# Altium integrated library Altium_WE-XTAL (rev25b).IntLib: 324 symbols (part 4 of 6)
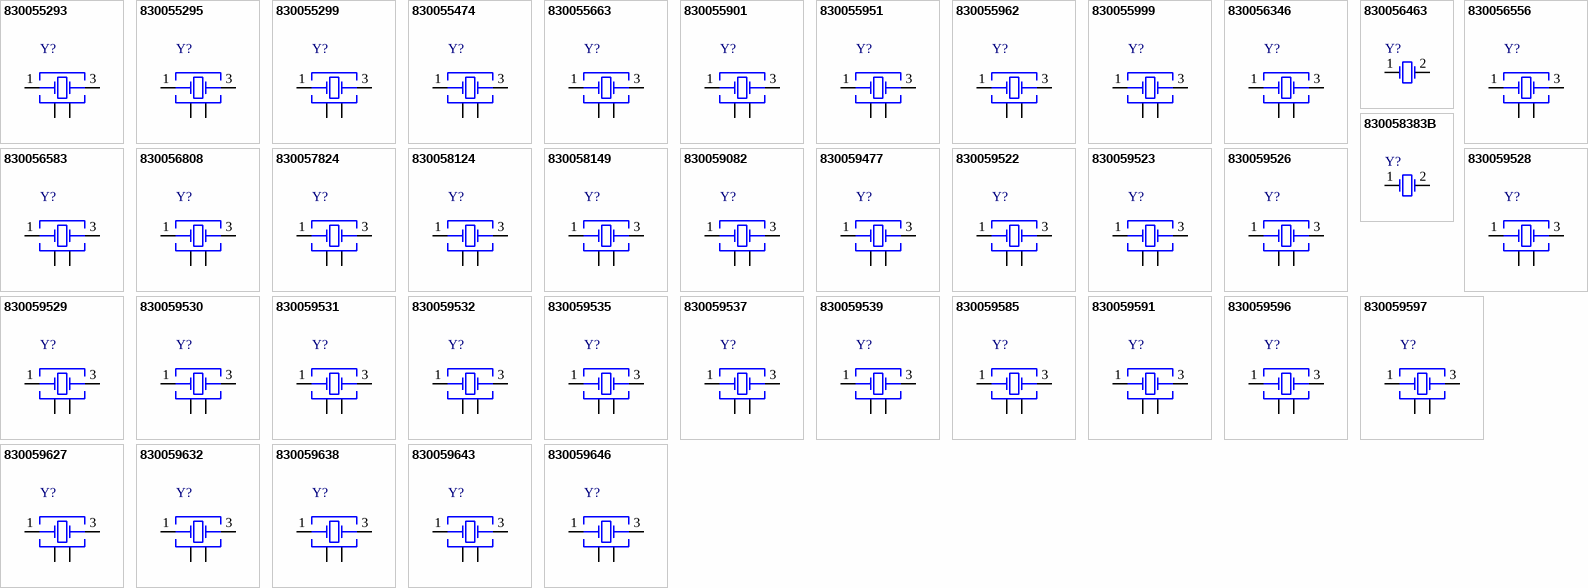
[diagram p11: symbols 830055293 to 830059646]

## 830059082
designator Y?, comment 8MHz  (value not drawn)
WE-XTAL Quartz Crystal, 12SMX, 8MHz, +/-20ppm; Manufacturer Part Number: 830059082; Manufacturer: Wurth Elektronik; Frequency Stability: 50ppm; Load Capacitance: 10pF; Category: Crystals; Match Code: WE-XTAL; ComponentLink1Description: Website Link; ComponentLink1URL: https://www.we-online.com/redexpert/article/830059082?ad; ComponentLink2Description: Datasheet Link; ComponentLink2URL: https://www.we-online.com/redexpert/spec/830059082?ad; Mount: Surface Mount; Min Operating Temperature: -20°C; Max Operating Temperature: 70°C; Packaging: Tape and Reel; Case/Size Code: 12SMX; Length: 7mm; Width: 5mm; Height: 1.4mm; Application: 0; Frequency: 8MHz; Frequency Tolerance: +/-20ppm
footprint WE-XTAL_12SMX
pins: 1 Crystal, 2 GND, 3 Crystal, 4 GND

## 830059477
designator Y?, comment 12.8MHz  (value not drawn)
WE-XTAL Quartz Crystal, CFPX-104, 12.8MHz, +/-10ppm; Manufacturer Part Number: 830059477; Manufacturer: Wurth Elektronik; Frequency Stability: 20ppm; Load Capacitance: 15pF; Category: Crystals; Match Code: WE-XTAL; ComponentLink1Description: Website Link; ComponentLink1URL: https://www.we-online.com/redexpert/article/830059477?ad; ComponentLink2Description: Datasheet Link; ComponentLink2URL: https://www.we-online.com/redexpert/spec/830059477?ad; Mount: Surface Mount; Min Operating Temperature: -40°C; Max Operating Temperature: 85°C; Packaging: Tape and Reel; Case/Size Code: CFPX-104; Length: 5mm; Width: 3.2mm; Height: 1mm; Application: Processor; Frequency: 12.8MHz; Frequency Tolerance: +/-10ppm
footprint WE-XTAL_CFPX-104
pins: 1 Crystal, 2 GND & Lid, 3 Crystal, 4 GND & Lid

## 830059522
designator Y?, comment 12MHz  (value not drawn)
WE-XTAL Quartz Crystal, CFPX-104, 12MHz, +/-20ppm; Manufacturer Part Number: 830059522; Manufacturer: Wurth Elektronik; Frequency Stability: 30ppm; Load Capacitance: 18pF; Category: Crystals; Match Code: WE-XTAL; ComponentLink1Description: Website Link; ComponentLink1URL: https://www.we-online.com/redexpert/article/830059522?ad; ComponentLink2Description: Datasheet Link; ComponentLink2URL: https://www.we-online.com/redexpert/spec/830059522?ad; Mount: Surface Mount; Min Operating Temperature: -40°C; Max Operating Temperature: 85°C; Packaging: Tape and Reel; Case/Size Code: CFPX-104; Length: 5mm; Width: 3.2mm; Height: 1mm; Application: Processor, USB, CAN; Frequency: 12MHz; Frequency Tolerance: +/-20ppm
footprint WE-XTAL_CFPX-104
pins: 1 Crystal, 2 GND & Lid, 3 Crystal, 4 GND & Lid

## 830059523
designator Y?, comment 12.288MHz  (value not drawn)
WE-XTAL Quartz Crystal, CFPX-104, 12.288MHz, +/-20ppm; Manufacturer Part Number: 830059523; Manufacturer: Wurth Elektronik; Frequency Stability: 30ppm; Load Capacitance: 18pF; Category: Crystals; Match Code: WE-XTAL; ComponentLink1Description: Website Link; ComponentLink1URL: https://www.we-online.com/redexpert/article/830059523?ad; ComponentLink2Description: Datasheet Link; ComponentLink2URL: https://www.we-online.com/redexpert/spec/830059523?ad; Mount: Surface Mount; Min Operating Temperature: -40°C; Max Operating Temperature: 85°C; Packaging: Tape and Reel; Case/Size Code: CFPX-104; Length: 5mm; Width: 3.2mm; Height: 1mm; Application: UART, Audio; Frequency: 12.288MHz; Frequency Tolerance: +/-20ppm
footprint WE-XTAL_CFPX-104
pins: 1 Crystal, 2 GND & Lid, 3 Crystal, 4 GND & Lid

## 830059526
designator Y?, comment 14.31818MHz  (value not drawn)
WE-XTAL Quartz Crystal, CFPX-104, 14.31818MHz, +/-20ppm; Manufacturer Part Number: 830059526; Manufacturer: Wurth Elektronik; Frequency Stability: 30ppm; Load Capacitance: 18pF; Category: Crystals; Match Code: WE-XTAL; ComponentLink1Description: Website Link; ComponentLink1URL: https://www.we-online.com/redexpert/article/830059526?ad; ComponentLink2Description: Datasheet Link; ComponentLink2URL: https://www.we-online.com/redexpert/spec/830059526?ad; Mount: Surface Mount; Min Operating Temperature: -40°C; Max Operating Temperature: 85°C; Packaging: Tape and Reel; Case/Size Code: CFPX-104; Length: 5mm; Width: 3.2mm; Height: 1mm; Application: Processor; Frequency: 14.31818MHz; Frequency Tolerance: +/-20ppm
footprint WE-XTAL_CFPX-104
pins: 1 Crystal, 2 GND & Lid, 3 Crystal, 4 GND & Lid

## 830059528
designator Y?, comment 16.384MHz  (value not drawn)
WE-XTAL Quartz Crystal, CFPX-104, 16.384MHz, +/-20ppm; Manufacturer Part Number: 830059528; Manufacturer: Wurth Elektronik; Frequency Stability: 30ppm; Load Capacitance: 18pF; Category: Crystals; Match Code: WE-XTAL; ComponentLink1Description: Website Link; ComponentLink1URL: https://www.we-online.com/redexpert/article/830059528?ad; ComponentLink2Description: Datasheet Link; ComponentLink2URL: https://www.we-online.com/redexpert/spec/830059528?ad; Mount: Surface Mount; Min Operating Temperature: -40°C; Max Operating Temperature: 85°C; Packaging: Tape and Reel; Case/Size Code: CFPX-104; Length: 5mm; Width: 3.2mm; Height: 1mm; Application: Audio, GPS; Frequency: 16.384MHz; Frequency Tolerance: +/-20ppm
footprint WE-XTAL_CFPX-104
pins: 1 Crystal, 2 GND & Lid, 3 Crystal, 4 GND & Lid

## 830059529
designator Y?, comment 18.432MHz  (value not drawn)
WE-XTAL Quartz Crystal, CFPX-104, 18.432MHz, +/-20ppm; Manufacturer Part Number: 830059529; Manufacturer: Wurth Elektronik; Frequency Stability: 30ppm; Load Capacitance: 18pF; Category: Crystals; Match Code: WE-XTAL; ComponentLink1Description: Website Link; ComponentLink1URL: https://www.we-online.com/redexpert/article/830059529?ad; ComponentLink2Description: Datasheet Link; ComponentLink2URL: https://www.we-online.com/redexpert/spec/830059529?ad; Mount: Surface Mount; Min Operating Temperature: -40°C; Max Operating Temperature: 85°C; Packaging: Tape and Reel; Case/Size Code: CFPX-104; Length: 5mm; Width: 3.2mm; Height: 1mm; Application: UART, Audio; Frequency: 18.432MHz; Frequency Tolerance: +/-20ppm
footprint WE-XTAL_CFPX-104
pins: 1 Crystal, 2 GND & Lid, 3 Crystal, 4 GND & Lid

## 830059530
designator Y?, comment 24MHz  (value not drawn)
WE-XTAL Quartz Crystal, CFPX-104, 24MHz, +/-20ppm; Manufacturer Part Number: 830059530; Manufacturer: Wurth Elektronik; Frequency Stability: 30ppm; Load Capacitance: 18pF; Category: Crystals; Match Code: WE-XTAL; ComponentLink1Description: Website Link; ComponentLink1URL: https://www.we-online.com/redexpert/article/830059530?ad; ComponentLink2Description: Datasheet Link; ComponentLink2URL: https://www.we-online.com/redexpert/spec/830059530?ad; Mount: Surface Mount; Min Operating Temperature: -40°C; Max Operating Temperature: 85°C; Packaging: Tape and Reel; Case/Size Code: CFPX-104; Length: 5mm; Width: 3.2mm; Height: 1mm; Application: Processor, USB, Bluetooth; Frequency: 24MHz; Frequency Tolerance: +/-20ppm
footprint WE-XTAL_CFPX-104
pins: 1 Crystal, 2 GND & Lid, 3 Crystal, 4 GND & Lid

## 830059531
designator Y?, comment 24.576MHz  (value not drawn)
WE-XTAL Quartz Crystal, CFPX-104, 24.576MHz, +/-20ppm; Manufacturer Part Number: 830059531; Manufacturer: Wurth Elektronik; Frequency Stability: 30ppm; Load Capacitance: 18pF; Category: Crystals; Match Code: WE-XTAL; ComponentLink1Description: Website Link; ComponentLink1URL: https://www.we-online.com/redexpert/article/830059531?ad; ComponentLink2Description: Datasheet Link; ComponentLink2URL: https://www.we-online.com/redexpert/spec/830059531?ad; Mount: Surface Mount; Min Operating Temperature: -40°C; Max Operating Temperature: 85°C; Packaging: Tape and Reel; Case/Size Code: CFPX-104; Length: 5mm; Width: 3.2mm; Height: 1mm; Application: UART, Audio; Frequency: 24.576MHz; Frequency Tolerance: +/-20ppm
footprint WE-XTAL_CFPX-104
pins: 1 Crystal, 2 GND & Lid, 3 Crystal, 4 GND & Lid

## 830059532
designator Y?, comment 25MHz  (value not drawn)
WE-XTAL Quartz Crystal, CFPX-104, 25MHz, +/-20ppm; Manufacturer Part Number: 830059532; Manufacturer: Wurth Elektronik; Frequency Stability: 30ppm; Load Capacitance: 18pF; Category: Crystals; Match Code: WE-XTAL; ComponentLink1Description: Website Link; ComponentLink1URL: https://www.we-online.com/redexpert/article/830059532?ad; ComponentLink2Description: Datasheet Link; ComponentLink2URL: https://www.we-online.com/redexpert/spec/830059532?ad; Mount: Surface Mount; Min Operating Temperature: -40°C; Max Operating Temperature: 85°C; Packaging: Tape and Reel; Case/Size Code: CFPX-104; Length: 5mm; Width: 3.2mm; Height: 1mm; Application: Processor, USB, 3G/4G/5G, Ethernet, Small Cell, PHY, PCI Express; Frequency: 25MHz; Frequency Tolerance: +/-20ppm
footprint WE-XTAL_CFPX-104
pins: 1 Crystal, 2 GND & Lid, 3 Crystal, 4 GND & Lid

## 830059535
designator Y?, comment 32MHz  (value not drawn)
WE-XTAL Quartz Crystal, CFPX-104, 32MHz, +/-20ppm; Manufacturer Part Number: 830059535; Manufacturer: Wurth Elektronik; Frequency Stability: 30ppm; Load Capacitance: 18pF; Category: Crystals; Match Code: WE-XTAL; ComponentLink1Description: Website Link; ComponentLink1URL: https://www.we-online.com/redexpert/article/830059535?ad; ComponentLink2Description: Datasheet Link; ComponentLink2URL: https://www.we-online.com/redexpert/spec/830059535?ad; Mount: Surface Mount; Min Operating Temperature: -40°C; Max Operating Temperature: 85°C; Packaging: Tape and Reel; Case/Size Code: CFPX-104; Length: 5mm; Width: 3.2mm; Height: 1mm; Application: Processor, Bluetooth; Frequency: 32MHz; Frequency Tolerance: +/-20ppm
footprint WE-XTAL_CFPX-104
pins: 1 Crystal, 2 GND & Lid, 3 Crystal, 4 GND & Lid

## 830059537
designator Y?, comment 40MHz  (value not drawn)
WE-XTAL Quartz Crystal, CFPX-104, 40MHz, +/-20ppm; Manufacturer Part Number: 830059537; Manufacturer: Wurth Elektronik; Frequency Stability: 30ppm; Load Capacitance: 18pF; Category: Crystals; Match Code: WE-XTAL; ComponentLink1Description: Website Link; ComponentLink1URL: https://www.we-online.com/redexpert/article/830059537?ad; ComponentLink2Description: Datasheet Link; ComponentLink2URL: https://www.we-online.com/redexpert/spec/830059537?ad; Mount: Surface Mount; Min Operating Temperature: -40°C; Max Operating Temperature: 85°C; Packaging: Tape and Reel; Case/Size Code: CFPX-104; Length: 5mm; Width: 3.2mm; Height: 1mm; Application: Processor, USB, 3G/4G/5G, CAN, Wi-Fi; Frequency: 40MHz; Frequency Tolerance: +/-20ppm
footprint WE-XTAL_CFPX-104
pins: 1 Crystal, 2 GND & Lid, 3 Crystal, 4 GND & Lid

## 830059539
designator Y?, comment 48MHz  (value not drawn)
WE-XTAL Quartz Crystal, CFPX-104, 48MHz, +/-20ppm; Manufacturer Part Number: 830059539; Manufacturer: Wurth Elektronik; Frequency Stability: 30ppm; Load Capacitance: 18pF; Category: Crystals; Match Code: WE-XTAL; ComponentLink1Description: Website Link; ComponentLink1URL: https://www.we-online.com/redexpert/article/830059539?ad; ComponentLink2Description: Datasheet Link; ComponentLink2URL: https://www.we-online.com/redexpert/spec/830059539?ad; Mount: Surface Mount; Min Operating Temperature: -40°C; Max Operating Temperature: 85°C; Packaging: Tape and Reel; Case/Size Code: CFPX-104; Length: 5mm; Width: 3.2mm; Height: 1mm; Application: Processor, USB, Wi-Fi; Frequency: 48MHz; Frequency Tolerance: +/-20ppm
footprint WE-XTAL_CFPX-104
pins: 1 Crystal, 2 GND & Lid, 3 Crystal, 4 GND & Lid

## 830059585
designator Y?, comment 20MHz  (value not drawn)
WE-XTAL Quartz Crystal, IQXC-42, 20MHz, +/-15ppm; Manufacturer Part Number: 830059585; Manufacturer: Wurth Elektronik; Frequency Stability: 20ppm; Load Capacitance: 10pF; Category: Crystals; Match Code: WE-XTAL; ComponentLink1Description: Website Link; ComponentLink1URL: https://www.we-online.com/redexpert/article/830059585?ad; ComponentLink2Description: Datasheet Link; ComponentLink2URL: https://www.we-online.com/redexpert/spec/830059585?ad; Mount: Surface Mount; Min Operating Temperature: -40°C; Max Operating Temperature: 85°C; Packaging: Tape and Reel; Case/Size Code: IQXC-42; Length: 2mm; Width: 1.6mm; Height: 0.5mm; Application: Processor, CAN, USB, Ethernet, Wi-Fi; Frequency: 20MHz; Frequency Tolerance: +/-15ppm
footprint WE-XTAL_IQXC-42
pins: 1 Crystal, 2 GND & Lid, 3 Crystal, 4 GND & Lid

## 830059591
designator Y?, comment 26MHz  (value not drawn)
WE-XTAL Quartz Crystal, IQXC-42, 26MHz, +/-15ppm; Manufacturer Part Number: 830059591; Manufacturer: Wurth Elektronik; Frequency Stability: 20ppm; Load Capacitance: 10pF; Category: Crystals; Match Code: WE-XTAL; ComponentLink1Description: Website Link; ComponentLink1URL: https://www.we-online.com/redexpert/article/830059591?ad; ComponentLink2Description: Datasheet Link; ComponentLink2URL: https://www.we-online.com/redexpert/spec/830059591?ad; Mount: Surface Mount; Min Operating Temperature: -40°C; Max Operating Temperature: 85°C; Packaging: Tape and Reel; Case/Size Code: IQXC-42; Length: 2mm; Width: 1.6mm; Height: 0.5mm; Application: CAN, Bluetooth, GPS, Small Cell; Frequency: 26MHz; Frequency Tolerance: +/-15ppm
footprint WE-XTAL_IQXC-42
pins: 1 Crystal, 2 GND & Lid, 3 Crystal, 4 GND & Lid

## 830059596
designator Y?, comment 30MHz  (value not drawn)
WE-XTAL Quartz Crystal, IQXC-42, 30MHz, +/-15ppm; Manufacturer Part Number: 830059596; Manufacturer: Wurth Elektronik; Frequency Stability: 20ppm; Load Capacitance: 10pF; Category: Crystals; Match Code: WE-XTAL; ComponentLink1Description: Website Link; ComponentLink1URL: https://www.we-online.com/redexpert/article/830059596?ad; ComponentLink2Description: Datasheet Link; ComponentLink2URL: https://www.we-online.com/redexpert/spec/830059596?ad; Mount: Surface Mount; Min Operating Temperature: -40°C; Max Operating Temperature: 85°C; Packaging: Tape and Reel; Case/Size Code: IQXC-42; Length: 2mm; Width: 1.6mm; Height: 0.5mm; Application: Processor, USB; Frequency: 30MHz; Frequency Tolerance: +/-15ppm
footprint WE-XTAL_IQXC-42
pins: 1 Crystal, 2 GND & Lid, 3 Crystal, 4 GND & Lid

## 830059597
designator Y?, comment 32MHz  (value not drawn)
WE-XTAL Quartz Crystal, IQXC-42, 32MHz, +/-15ppm; Manufacturer Part Number: 830059597; Manufacturer: Wurth Elektronik; Frequency Stability: 20ppm; Load Capacitance: 10pF; Category: Crystals; Match Code: WE-XTAL; ComponentLink1Description: Website Link; ComponentLink1URL: https://www.we-online.com/redexpert/article/830059597?ad; ComponentLink2Description: Datasheet Link; ComponentLink2URL: https://www.we-online.com/redexpert/spec/830059597?ad; Mount: Surface Mount; Min Operating Temperature: -40°C; Max Operating Temperature: 85°C; Packaging: Tape and Reel; Case/Size Code: IQXC-42; Length: 2mm; Width: 1.6mm; Height: 0.5mm; Application: Processor, Bluetooth; Frequency: 32MHz; Frequency Tolerance: +/-15ppm
footprint WE-XTAL_IQXC-42
pins: 1 Crystal, 2 GND & Lid, 3 Crystal, 4 GND & Lid

## 830059627
designator Y?, comment 38.4MHz  (value not drawn)
WE-XTAL Quartz Crystal, IQXC-42, 38.4MHz, +/-15ppm; Manufacturer Part Number: 830059627; Manufacturer: Wurth Elektronik; Frequency Stability: 30ppm; Load Capacitance: 10pF; Category: Crystals; Match Code: WE-XTAL; ComponentLink1Description: Website Link; ComponentLink1URL: https://www.we-online.com/redexpert/article/830059627?ad; ComponentLink2Description: Datasheet Link; ComponentLink2URL: https://www.we-online.com/redexpert/spec/830059627?ad; Mount: Surface Mount; Min Operating Temperature: -40°C; Max Operating Temperature: 85°C; Packaging: Tape and Reel; Case/Size Code: IQXC-42; Length: 2mm; Width: 1.6mm; Height: 0.5mm; Application: 3G/4G/5G, Audio, Small Cell, UART; Frequency: 38.4MHz; Frequency Tolerance: +/-15ppm
footprint WE-XTAL_IQXC-42
pins: 1 Crystal, 2 GND & Lid, 3 Crystal, 4 GND & Lid

## 830059632
designator Y?, comment 40MHz  (value not drawn)
WE-XTAL Quartz Crystal, IQXC-42, 40MHz, +/-15ppm; Manufacturer Part Number: 830059632; Manufacturer: Wurth Elektronik; Frequency Stability: 20ppm; Load Capacitance: 10pF; Category: Crystals; Match Code: WE-XTAL; ComponentLink1Description: Website Link; ComponentLink1URL: https://www.we-online.com/redexpert/article/830059632?ad; ComponentLink2Description: Datasheet Link; ComponentLink2URL: https://www.we-online.com/redexpert/spec/830059632?ad; Mount: Surface Mount; Min Operating Temperature: -40°C; Max Operating Temperature: 85°C; Packaging: Tape and Reel; Case/Size Code: IQXC-42; Length: 2mm; Width: 1.6mm; Height: 0.5mm; Application: Processor, USB, 3G/4G/5G, CAN, Wi-Fi; Frequency: 40MHz; Frequency Tolerance: +/-15ppm
footprint WE-XTAL_IQXC-42
pins: 1 Crystal, 2 GND & Lid, 3 Crystal, 4 GND & Lid

## 830059638
designator Y?, comment 20MHz  (value not drawn)
WE-XTAL Quartz Crystal, CFPX-180, 20MHz, +/-20ppm; Manufacturer Part Number: 830059638; Manufacturer: Wurth Elektronik; Frequency Stability: 30ppm; Load Capacitance: 18pF; Category: Crystals; Match Code: WE-XTAL; ComponentLink1Description: Website Link; ComponentLink1URL: https://www.we-online.com/redexpert/article/830059638?ad; ComponentLink2Description: Datasheet Link; ComponentLink2URL: https://www.we-online.com/redexpert/spec/830059638?ad; Mount: Surface Mount; Min Operating Temperature: -40°C; Max Operating Temperature: 85°C; Packaging: Tape and Reel; Case/Size Code: CFPX-180; Length: 3.2mm; Width: 2.5mm; Height: 0.8mm; Application: Processor, CAN, USB, Ethernet, Wi-Fi; Frequency: 20MHz; Frequency Tolerance: +/-20ppm
footprint WE-XTAL_CFPX-180
pins: 1 Crystal, 2 GND&Lid, 3 Crystal, 4 GND&Lid

## 830059643
designator Y?, comment 26MHz  (value not drawn)
WE-XTAL Quartz Crystal, CFPX-180, 26MHz, +/-20ppm; Manufacturer Part Number: 830059643; Manufacturer: Wurth Elektronik; Frequency Stability: 30ppm; Load Capacitance: 18pF; Category: Crystals; Match Code: WE-XTAL; ComponentLink1Description: Website Link; ComponentLink1URL: https://www.we-online.com/redexpert/article/830059643?ad; ComponentLink2Description: Datasheet Link; ComponentLink2URL: https://www.we-online.com/redexpert/spec/830059643?ad; Mount: Surface Mount; Min Operating Temperature: -40°C; Max Operating Temperature: 85°C; Packaging: Tape and Reel; Case/Size Code: CFPX-180; Length: 3.2mm; Width: 2.5mm; Height: 0.8mm; Application: CAN, Bluetooth, GPS, Small Cell; Frequency: 26MHz; Frequency Tolerance: +/-20ppm
footprint WE-XTAL_CFPX-180
pins: 1 Crystal, 2 GND&Lid, 3 Crystal, 4 GND&Lid

## 830059646
designator Y?, comment 30MHz  (value not drawn)
WE-XTAL Quartz Crystal, CFPX-180, 30MHz, +/-20ppm; Manufacturer Part Number: 830059646; Manufacturer: Wurth Elektronik; Frequency Stability: 30ppm; Load Capacitance: 18pF; Category: Crystals; Match Code: WE-XTAL; ComponentLink1Description: Website Link; ComponentLink1URL: https://www.we-online.com/redexpert/article/830059646?ad; ComponentLink2Description: Datasheet Link; ComponentLink2URL: https://www.we-online.com/redexpert/spec/830059646?ad; Mount: Surface Mount; Min Operating Temperature: -40°C; Max Operating Temperature: 85°C; Packaging: Tape and Reel; Case/Size Code: CFPX-180; Length: 3.2mm; Width: 2.5mm; Height: 0.8mm; Application: Processor, USB; Frequency: 30MHz; Frequency Tolerance: +/-20ppm
footprint WE-XTAL_CFPX-180
pins: 1 Crystal, 2 GND&Lid, 3 Crystal, 4 GND&Lid

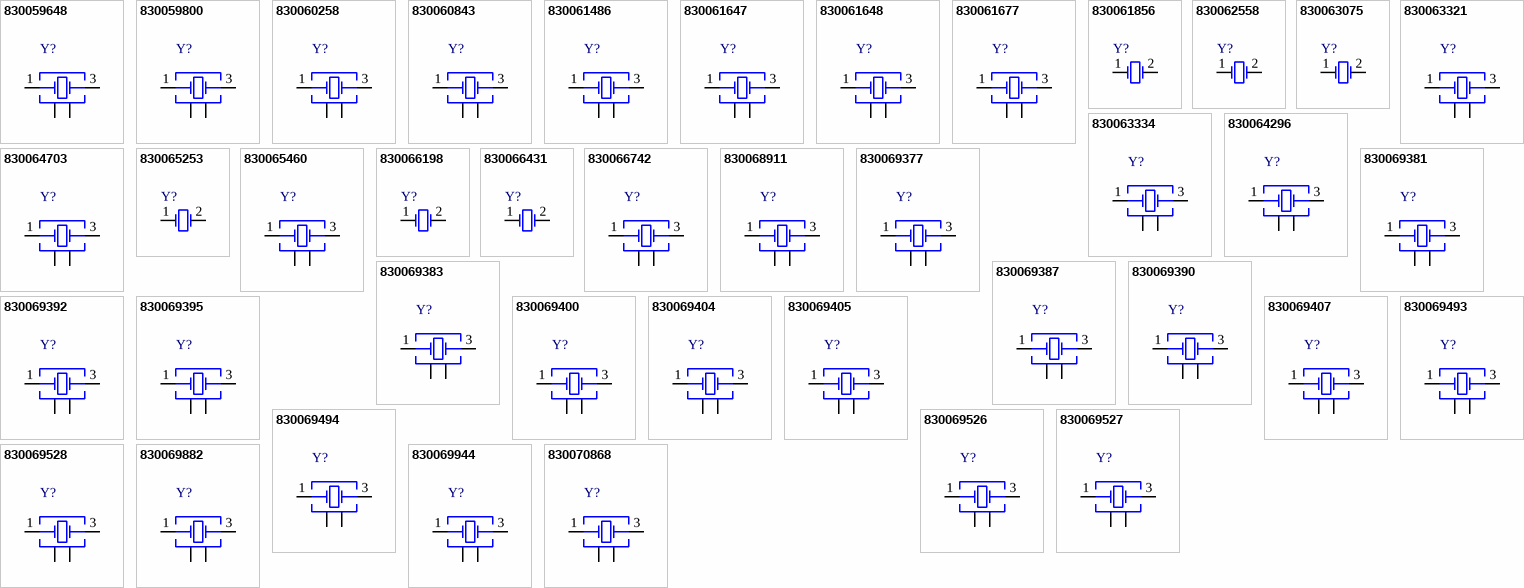
[diagram p5: symbols 830059648 to 830070868]

## 830059648
designator Y?, comment 40MHz  (value not drawn)
WE-XTAL Quartz Crystal, CFPX-180, 40MHz, +/-20ppm; Manufacturer Part Number: 830059648; Manufacturer: Wurth Elektronik; Frequency Stability: 30ppm; Load Capacitance: 18pF; Category: Crystals; Match Code: WE-XTAL; ComponentLink1Description: Website Link; ComponentLink1URL: https://www.we-online.com/redexpert/article/830059648?ad; ComponentLink2Description: Datasheet Link; ComponentLink2URL: https://www.we-online.com/redexpert/spec/830059648?ad; Mount: Surface Mount; Min Operating Temperature: -40°C; Max Operating Temperature: 85°C; Packaging: Tape and Reel; Case/Size Code: CFPX-180; Length: 3.2mm; Width: 2.5mm; Height: 0.8mm; Application: Processor, USB, 3G/4G/5G, CAN, Wi-Fi; Frequency: 40MHz; Frequency Tolerance: +/-20ppm
footprint WE-XTAL_CFPX-180
pins: 1 Crystal, 2 GND&Lid, 3 Crystal, 4 GND&Lid

## 830059800
designator Y?, comment 25MHz  (value not drawn)
WE-XTAL Quartz Crystal, CFPX-180, 25MHz, +/-10ppm; Manufacturer Part Number: 830059800; Manufacturer: Wurth Elektronik; Frequency Stability: 10ppm; Load Capacitance: 10pF; Category: Crystals; Match Code: WE-XTAL; ComponentLink1Description: Website Link; ComponentLink1URL: https://www.we-online.com/redexpert/article/830059800?ad; ComponentLink2Description: Datasheet Link; ComponentLink2URL: https://www.we-online.com/redexpert/spec/830059800?ad; Mount: Surface Mount; Min Operating Temperature: -10°C; Max Operating Temperature: 60°C; Packaging: Tape and Reel; Case/Size Code: CFPX-180; Length: 3.2mm; Width: 2.5mm; Height: 0.8mm; Application: Processor, USB, 3G/4G/5G, Ethernet, Small Cell, PHY, PCI Express; Frequency: 25MHz; Frequency Tolerance: +/-10ppm
footprint WE-XTAL_CFPX-180
pins: 1 Crystal, 2 GND&Lid, 3 Crystal, 4 GND&Lid

## 830060258
designator Y?, comment 32MHz  (value not drawn)
WE-XTAL Quartz Crystal, CFPX-180, 32MHz, +/-30ppm; Manufacturer Part Number: 830060258; Manufacturer: Wurth Elektronik; Frequency Stability: 30ppm; Load Capacitance: 10pF; Category: Crystals; Match Code: WE-XTAL; ComponentLink1Description: Website Link; ComponentLink1URL: https://www.we-online.com/redexpert/article/830060258?ad; ComponentLink2Description: Datasheet Link; ComponentLink2URL: https://www.we-online.com/redexpert/spec/830060258?ad; Mount: Surface Mount; Min Operating Temperature: -20°C; Max Operating Temperature: 70°C; Packaging: Tape and Reel; Case/Size Code: CFPX-180; Length: 3.2mm; Width: 2.5mm; Height: 0.8mm; Application: Processor, Bluetooth; Frequency: 32MHz; Frequency Tolerance: +/-30ppm
footprint WE-XTAL_CFPX-180
pins: 1 Crystal, 2 GND&Lid, 3 Crystal, 4 GND&Lid

## 830060843
designator Y?, comment 50MHz  (value not drawn)
WE-XTAL Quartz Crystal, CFPX-180, 50MHz, +/-25ppm; Manufacturer Part Number: 830060843; Manufacturer: Wurth Elektronik; Frequency Stability: 25ppm; Load Capacitance: 10pF; Category: Crystals; Match Code: WE-XTAL; ComponentLink1Description: Website Link; ComponentLink1URL: https://www.we-online.com/redexpert/article/830060843?ad; ComponentLink2Description: Datasheet Link; ComponentLink2URL: https://www.we-online.com/redexpert/spec/830060843?ad; Mount: Surface Mount; Min Operating Temperature: -20°C; Max Operating Temperature: 70°C; Packaging: Tape and Reel; Case/Size Code: CFPX-180; Length: 3.2mm; Width: 2.5mm; Height: 0.8mm; Application: Processor, Ethernet, PCI Express, PHY; Frequency: 50MHz; Frequency Tolerance: +/-25ppm
footprint WE-XTAL_CFPX-180
pins: 1 Crystal, 2 GND&Lid, 3 Crystal, 4 GND&Lid

## 830061486
designator Y?, comment 8.192MHz  (value not drawn)
WE-XTAL Quartz Crystal, CFPX-104, 8.192MHz, +/-30ppm; Manufacturer Part Number: 830061486; Manufacturer: Wurth Elektronik; Frequency Stability: 50ppm; Load Capacitance: 10pF; Category: Crystals; Match Code: WE-XTAL; ComponentLink1Description: Website Link; ComponentLink1URL: https://www.we-online.com/redexpert/article/830061486?ad; ComponentLink2Description: Datasheet Link; ComponentLink2URL: https://www.we-online.com/redexpert/spec/830061486?ad; Mount: Surface Mount; Min Operating Temperature: -40°C; Max Operating Temperature: 85°C; Packaging: Tape and Reel; Case/Size Code: CFPX-104; Length: 5mm; Width: 3.2mm; Height: 1mm; Application: Audio; Frequency: 8.192MHz; Frequency Tolerance: +/-30ppm
footprint WE-XTAL_CFPX-104
pins: 1 Crystal, 2 GND & Lid, 3 Crystal, 4 GND & Lid

## 830061647
designator Y?, comment 12MHz  (value not drawn)
WE-XTAL Quartz Crystal, CFPX-180, 12MHz, +/-20ppm; Manufacturer Part Number: 830061647; Manufacturer: Wurth Elektronik; Frequency Stability: 30ppm; Load Capacitance: 12pF; Category: Crystals; Match Code: WE-XTAL; ComponentLink1Description: Website Link; ComponentLink1URL: https://www.we-online.com/redexpert/article/830061647?ad; ComponentLink2Description: Datasheet Link; ComponentLink2URL: https://www.we-online.com/redexpert/spec/830061647?ad; Mount: Surface Mount; Min Operating Temperature: -40°C; Max Operating Temperature: 85°C; Packaging: Tape and Reel; Case/Size Code: CFPX-180; Length: 3.2mm; Width: 2.5mm; Height: 0.8mm; Application: Processor, USB, CAN; Frequency: 12MHz; Frequency Tolerance: +/-20ppm
footprint WE-XTAL_CFPX-180
pins: 1 Crystal, 2 GND&Lid, 3 Crystal, 4 GND&Lid

## 830061648
designator Y?, comment 12.288MHz  (value not drawn)
WE-XTAL Quartz Crystal, CFPX-180, 12.288MHz, +/-20ppm; Manufacturer Part Number: 830061648; Manufacturer: Wurth Elektronik; Frequency Stability: 30ppm; Load Capacitance: 12pF; Category: Crystals; Match Code: WE-XTAL; ComponentLink1Description: Website Link; ComponentLink1URL: https://www.we-online.com/redexpert/article/830061648?ad; ComponentLink2Description: Datasheet Link; ComponentLink2URL: https://www.we-online.com/redexpert/spec/830061648?ad; Mount: Surface Mount; Min Operating Temperature: -40°C; Max Operating Temperature: 85°C; Packaging: Tape and Reel; Case/Size Code: CFPX-180; Length: 3.2mm; Width: 2.5mm; Height: 0.8mm; Application: UART, Audio; Frequency: 12.288MHz; Frequency Tolerance: +/-20ppm
footprint WE-XTAL_CFPX-180
pins: 1 Crystal, 2 GND&Lid, 3 Crystal, 4 GND&Lid

## 830061677
designator Y?, comment 32MHz  (value not drawn)
WE-XTAL Quartz Crystal, CFPX-180, 32MHz, +/-20ppm; Manufacturer Part Number: 830061677; Manufacturer: Wurth Elektronik; Frequency Stability: 30ppm; Load Capacitance: 12pF; Category: Crystals; Match Code: WE-XTAL; ComponentLink1Description: Website Link; ComponentLink1URL: https://www.we-online.com/redexpert/article/830061677?ad; ComponentLink2Description: Datasheet Link; ComponentLink2URL: https://www.we-online.com/redexpert/spec/830061677?ad; Mount: Surface Mount; Min Operating Temperature: -40°C; Max Operating Temperature: 85°C; Packaging: Tape and Reel; Case/Size Code: CFPX-180; Length: 3.2mm; Width: 2.5mm; Height: 0.8mm; Application: Processor, Bluetooth; Frequency: 32MHz; Frequency Tolerance: +/-20ppm
footprint WE-XTAL_CFPX-180
pins: 1 Crystal, 2 GND&Lid, 3 Crystal, 4 GND&Lid

## 830061856
designator Y?, comment 20MHz  (value not drawn)
WE-XTAL Quartz Crystal, HC49/4HSMX, 20MHz, +/-10ppm; Manufacturer Part Number: 830061856; Manufacturer: Wurth Elektronik; Frequency Stability: 10ppm; Load Capacitance: 18pF; Category: Crystals; Match Code: WE-XTAL; ComponentLink1Description: Website Link; ComponentLink1URL: https://www.we-online.com/redexpert/article/830061856?ad; ComponentLink2Description: Datasheet Link; ComponentLink2URL: https://www.we-online.com/redexpert/spec/830061856?ad; Mount: Surface Mount; Min Operating Temperature: -20°C; Max Operating Temperature: 70°C; Packaging: Tape and Reel; Case/Size Code: HC49/4HSMX; Length: 12.4mm; Width: 4.7mm; Height: 4.5mm; Application: Processor, CAN, USB, Ethernet, Wi-Fi; Frequency: 20MHz; Frequency Tolerance: +/-10ppm
footprint WE-XTAL_HC49/4HSMX
pins: 1 OSC1, 2 OSC2

## 830062558
designator Y?, comment 32.768kHz  (value not drawn)
WE-XTAL Watch Crystal, IQXC-25, 32.768kHz, +/-10ppm; Manufacturer Part Number: 830062558; Manufacturer: Wurth Elektronik; Load Capacitance: 9pF; Category: Crystals; Match Code: WE-XTAL; ComponentLink1Description: Website Link; ComponentLink1URL: https://www.we-online.com/redexpert/article/830062558?ad; ComponentLink2Description: Datasheet Link; ComponentLink2URL: https://www.we-online.com/redexpert/spec/830062558?ad; Mount: Surface Mount; Min Operating Temperature: -40°C; Max Operating Temperature: 85°C; Packaging: Tape and Reel; Case/Size Code: IQXC-25; Length: 2mm; Width: 1.2mm; Height: 0.6mm; Application: Real Time Clock; Frequency: 32.768kHz; Frequency Tolerance: +/-10ppm
footprint WE-XTAL_IQXC-25
pins: 1 OSC1, 2 OSC2

## 830063075
designator Y?, comment 17.2032MHz  (value not drawn)
WE-XTAL Quartz Crystal, HC49/4HSMX, 17.2032MHz, +/-30ppm; Manufacturer Part Number: 830063075; Manufacturer: Wurth Elektronik; Frequency Stability: 50ppm; Load Capacitance: 22pF; Category: Crystals; Match Code: WE-XTAL; ComponentLink1Description: Website Link; ComponentLink1URL: https://www.we-online.com/redexpert/article/830063075?ad; ComponentLink2Description: Datasheet Link; ComponentLink2URL: https://www.we-online.com/redexpert/spec/830063075?ad; Mount: Surface Mount; Min Operating Temperature: -40°C; Max Operating Temperature: 85°C; Packaging: Tape and Reel; Case/Size Code: HC49/4HSMX; Length: 12.4mm; Width: 4.7mm; Height: 4.5mm; Application: Audio, USB; Frequency: 17.2032MHz; Frequency Tolerance: +/-30ppm
footprint WE-XTAL_HC49/4HSMX
pins: 1 OSC1, 2 OSC2

## 830063321
designator Y?, comment 25MHz  (value not drawn)
WE-XTAL Quartz Crystal, CFPX-180, 25MHz, +/-20ppm; Manufacturer Part Number: 830063321; Manufacturer: Wurth Elektronik; Frequency Stability: 50ppm; Load Capacitance: 18pF; Category: Crystals; Match Code: WE-XTAL; ComponentLink1Description: Website Link; ComponentLink1URL: https://www.we-online.com/redexpert/article/830063321?ad; ComponentLink2Description: Datasheet Link; ComponentLink2URL: https://www.we-online.com/redexpert/spec/830063321?ad; Mount: Surface Mount; Min Operating Temperature: -40°C; Max Operating Temperature: 85°C; Packaging: Tape and Reel; Case/Size Code: CFPX-180; Length: 3.2mm; Width: 2.5mm; Height: 0.8mm; Application: Processor, USB, 3G/4G/5G, Ethernet, Small Cell, PHY, PCI Express; Frequency: 25MHz; Frequency Tolerance: +/-20ppm
footprint WE-XTAL_CFPX-180
pins: 1 Crystal, 2 GND&Lid, 3 Crystal, 4 GND&Lid

## 830063334
designator Y?, comment 25MHz  (value not drawn)
WE-XTAL Quartz Crystal, CFPX-218, 25MHz, +/-20ppm; Manufacturer Part Number: 830063334; Manufacturer: Wurth Elektronik; Frequency Stability: 20ppm; Load Capacitance: 10pF; Category: Crystals; Match Code: WE-XTAL; ComponentLink1Description: Website Link; ComponentLink1URL: https://www.we-online.com/redexpert/article/830063334?ad; ComponentLink2Description: Datasheet Link; ComponentLink2URL: https://www.we-online.com/redexpert/spec/830063334?ad; Mount: Surface Mount; Min Operating Temperature: -40°C; Max Operating Temperature: 85°C; Packaging: Tape and Reel; Case/Size Code: CFPX-218; Length: 2.5mm; Width: 2mm; Height: 0.65mm; Application: Processor, USB, 3G/4G/5G, Ethernet, Small Cell, PHY, PCI Express; Frequency: 25MHz; Frequency Tolerance: +/-20ppm
footprint WE-XTAL_CFPX-218
pins: 1 Crystal, 2 GND, 3 Crystal, 4 GND

## 830064296
designator Y?, comment 16MHz  (value not drawn)
WE-XTAL Quartz Crystal, CFPX-180, 16MHz, +/-20ppm; Manufacturer Part Number: 830064296; Manufacturer: Wurth Elektronik; Frequency Stability: 20ppm; Load Capacitance: 8pF; Category: Crystals; Match Code: WE-XTAL; ComponentLink1Description: Website Link; ComponentLink1URL: https://www.we-online.com/redexpert/article/830064296?ad; ComponentLink2Description: Datasheet Link; ComponentLink2URL: https://www.we-online.com/redexpert/spec/830064296?ad; Mount: Surface Mount; Min Operating Temperature: -10°C; Max Operating Temperature: 70°C; Packaging: Tape and Reel; Case/Size Code: CFPX-180; Length: 3.2mm; Width: 2.5mm; Height: 0.8mm; Application: Processor, CAN, Bluetooth; Frequency: 16MHz; Frequency Tolerance: +/-20ppm
footprint WE-XTAL_CFPX-180
pins: 1 Crystal, 2 GND&Lid, 3 Crystal, 4 GND&Lid

## 830064703
designator Y?, comment 24MHz  (value not drawn)
WE-XTAL Quartz Crystal, CFPX-180, 24MHz, +/-20ppm; Manufacturer Part Number: 830064703; Manufacturer: Wurth Elektronik; Frequency Stability: 50ppm; Load Capacitance: 18pF; Category: Crystals; Match Code: WE-XTAL; ComponentLink1Description: Website Link; ComponentLink1URL: https://www.we-online.com/redexpert/article/830064703?ad; ComponentLink2Description: Datasheet Link; ComponentLink2URL: https://www.we-online.com/redexpert/spec/830064703?ad; Mount: Surface Mount; Min Operating Temperature: -40°C; Max Operating Temperature: 85°C; Packaging: Tape and Reel; Case/Size Code: CFPX-180; Length: 3.2mm; Width: 2.5mm; Height: 0.8mm; Application: Processor, USB, Bluetooth; Frequency: 24MHz; Frequency Tolerance: +/-20ppm
footprint WE-XTAL_CFPX-180
pins: 1 Crystal, 2 GND&Lid, 3 Crystal, 4 GND&Lid

## 830065253
designator Y?, comment 32.768kHz  (value not drawn)
WE-XTAL Watch Crystal, IQXC-90, 32.768kHz, +/-20ppm; Manufacturer Part Number: 830065253; Manufacturer: Wurth Elektronik; Load Capacitance: 12.5pF; Category: Crystals; Match Code: WE-XTAL; ComponentLink1Description: Website Link; ComponentLink1URL: https://www.we-online.com/redexpert/article/830065253?ad; ComponentLink2Description: Datasheet Link; ComponentLink2URL: https://www.we-online.com/redexpert/spec/830065253?ad; Mount: Surface Mount; Min Operating Temperature: -40°C; Max Operating Temperature: 85°C; Packaging: Tape and Reel; Case/Size Code: IQXC-90; Length: 1.6mm; Width: 1mm; Height: 0.5mm; Application: Real Time Clock; Frequency: 32.768kHz; Frequency Tolerance: +/-20ppm
footprint WE-XTAL_IQXC-90
pins: 1 OSC1, 2 OSC2

## 830065460
designator Y?, comment 30MHz  (value not drawn)
WE-XTAL Quartz Crystal, CFPX-104, 30MHz, +/-10ppm; Manufacturer Part Number: 830065460; Manufacturer: Wurth Elektronik; Frequency Stability: 20ppm; Load Capacitance: 10pF; Category: Crystals; Match Code: WE-XTAL; ComponentLink1Description: Website Link; ComponentLink1URL: https://www.we-online.com/redexpert/article/830065460?ad; ComponentLink2Description: Datasheet Link; ComponentLink2URL: https://www.we-online.com/redexpert/spec/830065460?ad; Mount: Surface Mount; Min Operating Temperature: -40°C; Max Operating Temperature: 85°C; Packaging: Tape and Reel; Case/Size Code: CFPX-104; Length: 5mm; Width: 3.2mm; Height: 1mm; Application: Processor, USB; Frequency: 30MHz; Frequency Tolerance: +/-10ppm
footprint WE-XTAL_CFPX-104
pins: 1 Crystal, 2 GND & Lid, 3 Crystal, 4 GND & Lid

## 830066198
designator Y?, comment 32.768kHz  (value not drawn)
WE-XTAL Watch Crystal, IQXC-90, 32.768kHz, +/-20ppm; Manufacturer Part Number: 830066198; Manufacturer: Wurth Elektronik; Load Capacitance: 9pF; Category: Crystals; Match Code: WE-XTAL; ComponentLink1Description: Website Link; ComponentLink1URL: https://www.we-online.com/redexpert/article/830066198?ad; ComponentLink2Description: Datasheet Link; ComponentLink2URL: https://www.we-online.com/redexpert/spec/830066198?ad; Mount: Surface Mount; Min Operating Temperature: -40°C; Max Operating Temperature: 85°C; Packaging: Tape and Reel; Case/Size Code: IQXC-90; Length: 1.6mm; Width: 1mm; Height: 0.5mm; Application: Real Time Clock; Frequency: 32.768kHz; Frequency Tolerance: +/-20ppm
footprint WE-XTAL_IQXC-90
pins: 1 OSC1, 2 OSC2

## 830066431
designator Y?, comment 32.768kHz  (value not drawn)
WE-XTAL Watch Crystal, IQXC-90, 32.768kHz, +/-20ppm; Manufacturer Part Number: 830066431; Manufacturer: Wurth Elektronik; Load Capacitance: 7pF; Category: Crystals; Match Code: WE-XTAL; ComponentLink1Description: Website Link; ComponentLink1URL: https://www.we-online.com/redexpert/article/830066431?ad; ComponentLink2Description: Datasheet Link; ComponentLink2URL: https://www.we-online.com/redexpert/spec/830066431?ad; Mount: Surface Mount; Min Operating Temperature: -40°C; Max Operating Temperature: 85°C; Packaging: Tape and Reel; Case/Size Code: IQXC-90; Length: 1.6mm; Width: 1mm; Height: 0.5mm; Application: Real Time Clock; Frequency: 32.768kHz; Frequency Tolerance: +/-20ppm
footprint WE-XTAL_IQXC-90
pins: 1 OSC1, 2 OSC2

## 830066742
designator Y?, comment 26MHz  (value not drawn)
WE-XTAL Quartz Crystal, IQXC-26, 26MHz, +/-15ppm; Manufacturer Part Number: 830066742; Manufacturer: Wurth Elektronik; Frequency Stability: 15ppm; Load Capacitance: 8pF; Category: Crystals; Match Code: WE-XTAL; ComponentLink1Description: Website Link; ComponentLink1URL: https://www.we-online.com/redexpert/article/830066742?ad; ComponentLink2Description: Datasheet Link; ComponentLink2URL: https://www.we-online.com/redexpert/spec/830066742?ad; Mount: Surface Mount; Min Operating Temperature: -20°C; Max Operating Temperature: 70°C; Packaging: Tape and Reel; Case/Size Code: IQXC-26; Length: 1.6mm; Width: 1.2mm; Height: 0.4mm; Application: CAN, Bluetooth, GPS, Small Cell; Frequency: 26MHz; Frequency Tolerance: +/-15ppm
footprint WE-XTAL_IQXC-26
pins: 1 Crystal, 2 GND, 3 Crystal, 4 GND

## 830068911
designator Y?, comment 25MHz  (value not drawn)
WE-XTAL Quartz Crystal, CFPX-180, 25MHz, +/-30ppm; Manufacturer Part Number: 830068911; Manufacturer: Wurth Elektronik; Frequency Stability: 50ppm; Load Capacitance: 18pF; Category: Crystals; Match Code: WE-XTAL; ComponentLink1Description: Website Link; ComponentLink1URL: https://www.we-online.com/redexpert/article/830068911?ad; ComponentLink2Description: Datasheet Link; ComponentLink2URL: https://www.we-online.com/redexpert/spec/830068911?ad; Mount: Surface Mount; Min Operating Temperature: -20°C; Max Operating Temperature: 70°C; Packaging: Tape and Reel; Case/Size Code: CFPX-180; Length: 3.2mm; Width: 2.5mm; Height: 0.8mm; Application: Processor, USB, 3G/4G/5G, Ethernet, Small Cell, PHY, PCI Express; Frequency: 25MHz; Frequency Tolerance: +/-30ppm
footprint WE-XTAL_CFPX-180
pins: 1 Crystal, 2 GND&Lid, 3 Crystal, 4 GND&Lid

## 830069377
designator Y?, comment 32MHz  (value not drawn)
WE-XTAL Quartz Crystal, CFPX-180, 32MHz, +/-20ppm; Manufacturer Part Number: 830069377; Manufacturer: Wurth Elektronik; Frequency Stability: 30ppm; Load Capacitance: 18pF; Category: Crystals; Match Code: WE-XTAL; ComponentLink1Description: Website Link; ComponentLink1URL: https://www.we-online.com/redexpert/article/830069377?ad; ComponentLink2Description: Datasheet Link; ComponentLink2URL: https://www.we-online.com/redexpert/spec/830069377?ad; Mount: Surface Mount; Min Operating Temperature: -40°C; Max Operating Temperature: 85°C; Packaging: Tape and Reel; Case/Size Code: CFPX-180; Length: 3.2mm; Width: 2.5mm; Height: 0.8mm; Application: Processor, Bluetooth; Frequency: 32MHz; Frequency Tolerance: +/-20ppm
footprint WE-XTAL_CFPX-180
pins: 1 Crystal, 2 GND&Lid, 3 Crystal, 4 GND&Lid

## 830069381
designator Y?, comment 20MHz  (value not drawn)
WE-XTAL Quartz Crystal, CFPX-218, 20MHz, +/-20ppm; Manufacturer Part Number: 830069381; Manufacturer: Wurth Elektronik; Frequency Stability: 20ppm; Load Capacitance: 10pF; Category: Crystals; Match Code: WE-XTAL; ComponentLink1Description: Website Link; ComponentLink1URL: https://www.we-online.com/redexpert/article/830069381?ad; ComponentLink2Description: Datasheet Link; ComponentLink2URL: https://www.we-online.com/redexpert/spec/830069381?ad; Mount: Surface Mount; Min Operating Temperature: -40°C; Max Operating Temperature: 85°C; Packaging: Tape and Reel; Case/Size Code: CFPX-218; Length: 2.5mm; Width: 2mm; Height: 0.65mm; Application: Processor, CAN, USB, Ethernet, Wi-Fi; Frequency: 20MHz; Frequency Tolerance: +/-20ppm
footprint WE-XTAL_CFPX-218
pins: 1 Crystal, 2 GND, 3 Crystal, 4 GND

## 830069383
designator Y?, comment 24MHz  (value not drawn)
WE-XTAL Quartz Crystal, CFPX-218, 24MHz, +/-20ppm; Manufacturer Part Number: 830069383; Manufacturer: Wurth Elektronik; Frequency Stability: 20ppm; Load Capacitance: 10pF; Category: Crystals; Match Code: WE-XTAL; ComponentLink1Description: Website Link; ComponentLink1URL: https://www.we-online.com/redexpert/article/830069383?ad; ComponentLink2Description: Datasheet Link; ComponentLink2URL: https://www.we-online.com/redexpert/spec/830069383?ad; Mount: Surface Mount; Min Operating Temperature: -40°C; Max Operating Temperature: 85°C; Packaging: Tape and Reel; Case/Size Code: CFPX-218; Length: 2.5mm; Width: 2mm; Height: 0.65mm; Application: Processor, USB, Bluetooth; Frequency: 24MHz; Frequency Tolerance: +/-20ppm
footprint WE-XTAL_CFPX-218
pins: 1 Crystal, 2 GND, 3 Crystal, 4 GND

## 830069387
designator Y?, comment 24.576MHz  (value not drawn)
WE-XTAL Quartz Crystal, CFPX-218, 24.576MHz, +/-20ppm; Manufacturer Part Number: 830069387; Manufacturer: Wurth Elektronik; Frequency Stability: 20ppm; Load Capacitance: 10pF; Category: Crystals; Match Code: WE-XTAL; ComponentLink1Description: Website Link; ComponentLink1URL: https://www.we-online.com/redexpert/article/830069387?ad; ComponentLink2Description: Datasheet Link; ComponentLink2URL: https://www.we-online.com/redexpert/spec/830069387?ad; Mount: Surface Mount; Min Operating Temperature: -40°C; Max Operating Temperature: 85°C; Packaging: Tape and Reel; Case/Size Code: CFPX-218; Length: 2.5mm; Width: 2mm; Height: 0.65mm; Application: UART, Audio; Frequency: 24.576MHz; Frequency Tolerance: +/-20ppm
footprint WE-XTAL_CFPX-218
pins: 1 Crystal, 2 GND, 3 Crystal, 4 GND

## 830069390
designator Y?, comment 32MHz  (value not drawn)
WE-XTAL Quartz Crystal, CFPX-218, 32MHz, +/-20ppm; Manufacturer Part Number: 830069390; Manufacturer: Wurth Elektronik; Frequency Stability: 20ppm; Load Capacitance: 10pF; Category: Crystals; Match Code: WE-XTAL; ComponentLink1Description: Website Link; ComponentLink1URL: https://www.we-online.com/redexpert/article/830069390?ad; ComponentLink2Description: Datasheet Link; ComponentLink2URL: https://www.we-online.com/redexpert/spec/830069390?ad; Mount: Surface Mount; Min Operating Temperature: -40°C; Max Operating Temperature: 85°C; Packaging: Tape and Reel; Case/Size Code: CFPX-218; Length: 2.5mm; Width: 2mm; Height: 0.65mm; Application: Processor, Bluetooth; Frequency: 32MHz; Frequency Tolerance: +/-20ppm
footprint WE-XTAL_CFPX-218
pins: 1 Crystal, 2 GND, 3 Crystal, 4 GND

## 830069392
designator Y?, comment 16MHz  (value not drawn)
WE-XTAL Quartz Crystal, CFPX-218, 16MHz, +/-20ppm; Manufacturer Part Number: 830069392; Manufacturer: Wurth Elektronik; Frequency Stability: 20ppm; Load Capacitance: 10pF; Category: Crystals; Match Code: WE-XTAL; ComponentLink1Description: Website Link; ComponentLink1URL: https://www.we-online.com/redexpert/article/830069392?ad; ComponentLink2Description: Datasheet Link; ComponentLink2URL: https://www.we-online.com/redexpert/spec/830069392?ad; Mount: Surface Mount; Min Operating Temperature: -40°C; Max Operating Temperature: 85°C; Packaging: Tape and Reel; Case/Size Code: CFPX-218; Length: 2.5mm; Width: 2mm; Height: 0.65mm; Application: Processor, CAN, Bluetooth; Frequency: 16MHz; Frequency Tolerance: +/-20ppm
footprint WE-XTAL_CFPX-218
pins: 1 Crystal, 2 GND, 3 Crystal, 4 GND

## 830069395
designator Y?, comment 16.384MHz  (value not drawn)
WE-XTAL Quartz Crystal, CFPX-218, 16.384MHz, +/-20ppm; Manufacturer Part Number: 830069395; Manufacturer: Wurth Elektronik; Frequency Stability: 20ppm; Load Capacitance: 10pF; Category: Crystals; Match Code: WE-XTAL; ComponentLink1Description: Website Link; ComponentLink1URL: https://www.we-online.com/redexpert/article/830069395?ad; ComponentLink2Description: Datasheet Link; ComponentLink2URL: https://www.we-online.com/redexpert/spec/830069395?ad; Mount: Surface Mount; Min Operating Temperature: -40°C; Max Operating Temperature: 85°C; Packaging: Tape and Reel; Case/Size Code: CFPX-218; Length: 2.5mm; Width: 2mm; Height: 0.65mm; Application: Audio, GPS; Frequency: 16.384MHz; Frequency Tolerance: +/-20ppm
footprint WE-XTAL_CFPX-218
pins: 1 Crystal, 2 GND, 3 Crystal, 4 GND

## 830069400
designator Y?, comment 18.432MHz  (value not drawn)
WE-XTAL Quartz Crystal, CFPX-218, 18.432MHz, +/-20ppm; Manufacturer Part Number: 830069400; Manufacturer: Wurth Elektronik; Frequency Stability: 20ppm; Load Capacitance: 18pF; Category: Crystals; Match Code: WE-XTAL; ComponentLink1Description: Website Link; ComponentLink1URL: https://www.we-online.com/redexpert/article/830069400?ad; ComponentLink2Description: Datasheet Link; ComponentLink2URL: https://www.we-online.com/redexpert/spec/830069400?ad; Mount: Surface Mount; Min Operating Temperature: -40°C; Max Operating Temperature: 85°C; Packaging: Tape and Reel; Case/Size Code: CFPX-218; Length: 2.5mm; Width: 2mm; Height: 0.65mm; Application: UART, Audio; Frequency: 18.432MHz; Frequency Tolerance: +/-20ppm
footprint WE-XTAL_CFPX-218
pins: 1 Crystal, 2 GND, 3 Crystal, 4 GND

## 830069404
designator Y?, comment 19.2MHz  (value not drawn)
WE-XTAL Quartz Crystal, CFPX-218, 19.2MHz, +/-20ppm; Manufacturer Part Number: 830069404; Manufacturer: Wurth Elektronik; Frequency Stability: 20ppm; Load Capacitance: 10pF; Category: Crystals; Match Code: WE-XTAL; ComponentLink1Description: Website Link; ComponentLink1URL: https://www.we-online.com/redexpert/article/830069404?ad; ComponentLink2Description: Datasheet Link; ComponentLink2URL: https://www.we-online.com/redexpert/spec/830069404?ad; Mount: Surface Mount; Min Operating Temperature: -40°C; Max Operating Temperature: 85°C; Packaging: Tape and Reel; Case/Size Code: CFPX-218; Length: 2.5mm; Width: 2mm; Height: 0.65mm; Application: UART, 3G/4G/5G, Small Cell; Frequency: 19.2MHz; Frequency Tolerance: +/-20ppm
footprint WE-XTAL_CFPX-218
pins: 1 Crystal, 2 GND, 3 Crystal, 4 GND

## 830069405
designator Y?, comment 27MHz  (value not drawn)
WE-XTAL Quartz Crystal, CFPX-218, 27MHz, +/-20ppm; Manufacturer Part Number: 830069405; Manufacturer: Wurth Elektronik; Frequency Stability: 20ppm; Load Capacitance: 18pF; Category: Crystals; Match Code: WE-XTAL; ComponentLink1Description: Website Link; ComponentLink1URL: https://www.we-online.com/redexpert/article/830069405?ad; ComponentLink2Description: Datasheet Link; ComponentLink2URL: https://www.we-online.com/redexpert/spec/830069405?ad; Mount: Surface Mount; Min Operating Temperature: -40°C; Max Operating Temperature: 85°C; Packaging: Tape and Reel; Case/Size Code: CFPX-218; Length: 2.5mm; Width: 2mm; Height: 0.65mm; Application: Processor; Frequency: 27MHz; Frequency Tolerance: +/-20ppm
footprint WE-XTAL_CFPX-218
pins: 1 Crystal, 2 GND, 3 Crystal, 4 GND

## 830069407
designator Y?, comment 30MHz  (value not drawn)
WE-XTAL Quartz Crystal, CFPX-218, 30MHz, +/-20ppm; Manufacturer Part Number: 830069407; Manufacturer: Wurth Elektronik; Frequency Stability: 20ppm; Load Capacitance: 10pF; Category: Crystals; Match Code: WE-XTAL; ComponentLink1Description: Website Link; ComponentLink1URL: https://www.we-online.com/redexpert/article/830069407?ad; ComponentLink2Description: Datasheet Link; ComponentLink2URL: https://www.we-online.com/redexpert/spec/830069407?ad; Mount: Surface Mount; Min Operating Temperature: -40°C; Max Operating Temperature: 85°C; Packaging: Tape and Reel; Case/Size Code: CFPX-218; Length: 2.5mm; Width: 2mm; Height: 0.65mm; Application: Processor, USB; Frequency: 30MHz; Frequency Tolerance: +/-20ppm
footprint WE-XTAL_CFPX-218
pins: 1 Crystal, 2 GND, 3 Crystal, 4 GND

## 830069493
designator Y?, comment 24MHz  (value not drawn)
WE-XTAL Quartz Crystal, IQXC-42, 24MHz, +/-15ppm; Manufacturer Part Number: 830069493; Manufacturer: Wurth Elektronik; Frequency Stability: 20ppm; Load Capacitance: 10pF; Category: Crystals; Match Code: WE-XTAL; ComponentLink1Description: Website Link; ComponentLink1URL: https://www.we-online.com/redexpert/article/830069493?ad; ComponentLink2Description: Datasheet Link; ComponentLink2URL: https://www.we-online.com/redexpert/spec/830069493?ad; Mount: Surface Mount; Min Operating Temperature: -40°C; Max Operating Temperature: 85°C; Packaging: Tape and Reel; Case/Size Code: IQXC-42; Length: 2mm; Width: 1.6mm; Height: 0.5mm; Application: Processor, USB, Bluetooth; Frequency: 24MHz; Frequency Tolerance: +/-15ppm
footprint WE-XTAL_IQXC-42
pins: 1 Crystal, 2 GND & Lid, 3 Crystal, 4 GND & Lid

## 830069494
designator Y?, comment 25MHz  (value not drawn)
WE-XTAL Quartz Crystal, IQXC-42, 25MHz, +/-15ppm; Manufacturer Part Number: 830069494; Manufacturer: Wurth Elektronik; Frequency Stability: 20ppm; Load Capacitance: 10pF; Category: Crystals; Match Code: WE-XTAL; ComponentLink1Description: Website Link; ComponentLink1URL: https://www.we-online.com/redexpert/article/830069494?ad; ComponentLink2Description: Datasheet Link; ComponentLink2URL: https://www.we-online.com/redexpert/spec/830069494?ad; Mount: Surface Mount; Min Operating Temperature: -40°C; Max Operating Temperature: 85°C; Packaging: Tape and Reel; Case/Size Code: IQXC-42; Length: 2mm; Width: 1.6mm; Height: 0.5mm; Application: Processor, USB, 3G/4G/5G, Ethernet, Small Cell, PHY, PCI Express; Frequency: 25MHz; Frequency Tolerance: +/-15ppm
footprint WE-XTAL_IQXC-42
pins: 1 Crystal, 2 GND & Lid, 3 Crystal, 4 GND & Lid

## 830069526
designator Y?, comment 32MHz  (value not drawn)
WE-XTAL Quartz Crystal, IQXC-26, 32MHz, +/-15ppm; Manufacturer Part Number: 830069526; Manufacturer: Wurth Elektronik; Frequency Stability: 15ppm; Load Capacitance: 8pF; Category: Crystals; Match Code: WE-XTAL; ComponentLink1Description: Website Link; ComponentLink1URL: https://www.we-online.com/redexpert/article/830069526?ad; ComponentLink2Description: Datasheet Link; ComponentLink2URL: https://www.we-online.com/redexpert/spec/830069526?ad; Mount: Surface Mount; Min Operating Temperature: -20°C; Max Operating Temperature: 70°C; Packaging: Tape and Reel; Case/Size Code: IQXC-26; Length: 1.6mm; Width: 1.2mm; Height: 0.4mm; Application: Processor, Bluetooth; Frequency: 32MHz; Frequency Tolerance: +/-15ppm
footprint WE-XTAL_IQXC-26
pins: 1 Crystal, 2 GND, 3 Crystal, 4 GND

## 830069527
designator Y?, comment 40MHz  (value not drawn)
WE-XTAL Quartz Crystal, IQXC-26, 40MHz, +/-15ppm; Manufacturer Part Number: 830069527; Manufacturer: Wurth Elektronik; Frequency Stability: 15ppm; Load Capacitance: 8pF; Category: Crystals; Match Code: WE-XTAL; ComponentLink1Description: Website Link; ComponentLink1URL: https://www.we-online.com/redexpert/article/830069527?ad; ComponentLink2Description: Datasheet Link; ComponentLink2URL: https://www.we-online.com/redexpert/spec/830069527?ad; Mount: Surface Mount; Min Operating Temperature: -20°C; Max Operating Temperature: 70°C; Packaging: Tape and Reel; Case/Size Code: IQXC-26; Length: 1.6mm; Width: 1.2mm; Height: 0.4mm; Application: Processor, USB, 3G/4G/5G, CAN, Wi-Fi; Frequency: 40MHz; Frequency Tolerance: +/-15ppm
footprint WE-XTAL_IQXC-26
pins: 1 Crystal, 2 GND, 3 Crystal, 4 GND